# Altium schematic symbol library SPB_Transistors.SchLib: 13 symbols
Pins are listed as number, name and electrical type; pins without a type are passive.

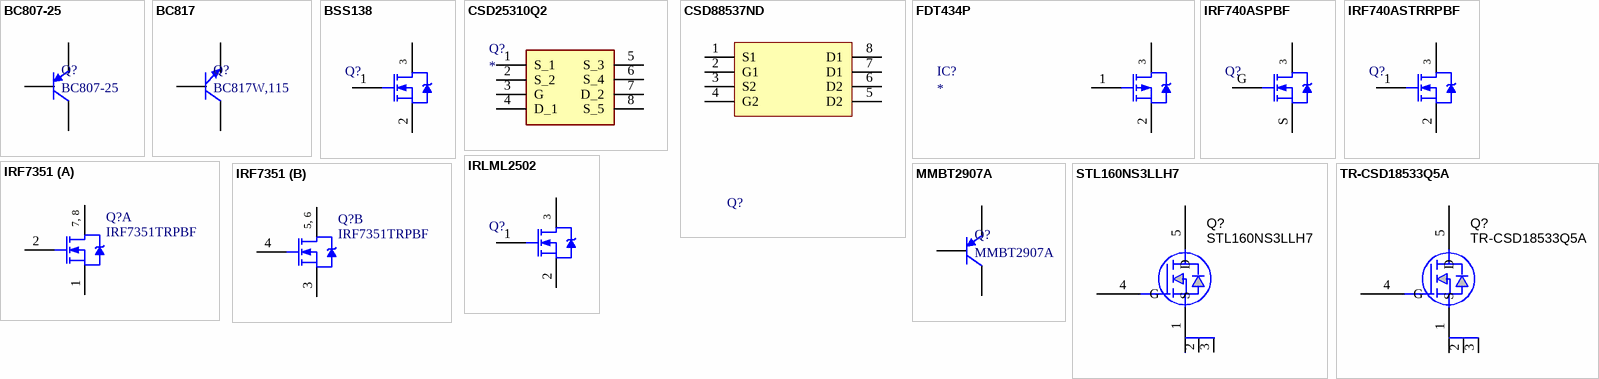
[diagram p0: symbols BC807-25 to TR-CSD18533Q5A]

## BC807-25
designator Q?
Bipolar Transistors - BJT PNP45V 500mA Surface Mount SOT-23-3; Manufacturer Part Number: BC807-25; Mouser Part #: 771-BC807-25-T/R
footprint SOT23_M (SOT23, 3-Leads, Body 2.9x1.3mm, Pitch 0.95mm, Lead Span 2.3mm - Reverse Pinning, IPC Low Density)
pins: 1 B, 2 E, 3 C

## BC817
designator Q?, comment BC817W,115
Bipolar Transistors - BJT TRANS GP TAPE-7 Surface Mount SOT-23-3; Manufacturer Part Number: BC817W,115; Mouser Part #: 771-BC817W115
footprint SOT23_M (SOT23, 3-Leads, Body 2.9x1.3mm, Pitch 0.95mm, Lead Span 2.3mm - Reverse Pinning, IPC Low Density)
pins: 1 B, 2 E, 3 C

## BSS138
designator Q?  (value not drawn)
MOSFET SOT-23 N-CH LOGIC; Manufacturer Part Number: BSS138; Digi-Key Part Number: BSS138CT-ND; Mouser Part Number: 512-BSS138
footprint SOT23_M (SOT23, 3-Leads, Body 2.9x1.3mm, Pitch 0.95mm, Lead Span 2.3mm - Reverse Pinning, IPC Low Density)
pins: 1 G, 2 S, 3 D

## CSD25310Q2
designator Q?
MOSFET (P-Channel); Manufacturer_Part_Number: CSD25310Q2; Supplier Part Number 2: 595-CSD25310Q2; Supplier 2: Mouser; Mouser part #: 595-CSD25310Q2; Supplier 1: Digi-Key; Supplier Part Number 1: 296-38915-1-ND
footprint CSD17313Q2
pins: 1 S_1, 2 S_2, 3 G, 4 D_1, 5 S_3, 6 S_4, 7 D_2, 8 S_5

## CSD88537ND
designator Q?  (value not drawn)
MOSFET 60-V Dual N-Channel Power MOSFET; Manufacturer Part Number: CSD88537ND; Mouser Part Number: 595-CSD88537ND
footprint SO8_M (SOIC, 8-Leads, Body 4.9x3.9mm, Pitch 1.27mm, IPC Low Density)
pins: 1 S1, 2 G1, 3 S2, 4 G2, 5 D2, 6 D2, 7 D1, 8 D1

## FDT434P
designator IC?
Integrated Circuit; Manufacturer_Name: Fairchild Semiconductor; Manufacturer_Part_Number: FDT434P; Datasheet Link: https://www.fairchildsemi.com/datasheets/FD/FDT434P.pdf; Height: 1.8mm; Mouser Part Number: 512-FDT434P; Mouser Price/Stock: https://www.mouser.com/Search/Refine.aspx?Keyword=512-FDT434P
footprint SOT230P700X180-4N
pins: 1 G, 2 S, 3 S

## IRF740ASPBF
designator Q?, comment IRLML2502  (value not drawn)
MOSFET N-Chan 400V 10 Amp; Manufacturer Part Number: IRF740ASPBF; Mouser Part Number: 844-IRF740ASPBF
footprint TO-263(D2PACK) (DPAK, SMT package)
pins: D, G, S
text: 3

## IRF740ASTRRPBF
designator Q?  (value not drawn)
MOSFET MOSFET N-CHANNEL 400V; Manufacturer Part Number: IRF740ASTRRPBF; Mouser Part Number: 844-IRF740ASTRRPBF
footprint TO228-DPACK
pins: 1 G, 2 S, 3 D

## IRF7351
designator Q?, comment IRF7351TRPBF
Mosfet Array 2 N-Channel (Dual) 60V 8A 2W Surface Mount 8-SO; Mouser Part #: 942-IRF7351TRPBF; Digi-Key Part Number: IRF7351TRPBFCT-ND; Manufacturer Part Number: IRF7351TRPBF
footprint SO8_L (SOIC, 8-Leads, Body 4.9x3.9mm, Pitch 1.27mm, IPC High Density)
footprint SO8_M (SOIC, 8-Leads, Body 4.9x3.9mm, Pitch 1.27mm, IPC Low Density)
footprint SO8_N (SOIC, 8-Leads, Body 4.9x3.9mm, Pitch 1.27mm, IPC Medium Density)
part A pins: 1 S, 2 G, 7 D, 8 D
part B pins: 3 S, 4 G, 5 D, 6 D
part A text: 7, 8
part B text: 5, 6

## IRLML2502
designator Q?  (value not drawn)
Manufacturer Part Number: IRLML2502TRPBF; Digi-Key Part Number: IRLML2502PBFCT-ND; Mouser Part Number: 942-IRLML2502TRPBF
footprint SOT-23B_L (SOT23, 3-Leads, Body 2.9x1.3mm, Pitch 0.95mm, Lead Span 2.4mm, IPC High Density)
pins: 1 G, 2 S, 3 D

## MMBT2907A
designator Q?
Bipolar (BJT) Transistor PNP 60V 600mA 200MHz 300mW Surface Mount SOT-23-3 (TO-236); Manufacturer Part Number: MMBT2907A; Digi-Key Part Number: MMBT2907ALT1GOSCT-ND; Mouser Part #: 512-MMBT2907A
footprint SOT23_L (SOT23, 3-Leads, Body 2.9x1.3mm, Pitch 0.95mm, Lead Span 2.3mm - Reverse Pinning, IPC High Density)
footprint SOT23_M (SOT23, 3-Leads, Body 2.9x1.3mm, Pitch 0.95mm, Lead Span 2.3mm - Reverse Pinning, IPC Low Density)
footprint SOT23_N (SOT23, 3-Leads, Body 2.9x1.3mm, Pitch 0.95mm, Lead Span 2.3mm - Reverse Pinning, IPC Medium Density)
pins: 1 C, 2 E, 3 B

## STL160NS3LLH7
designator Q?
N-channel 30 V, 0.0016 Ω typ., 160 A STripFET™ H7   Power MOSFET plus monolithic Schottky in a PowerFLAT™ 5x6; Manufacturer: ST; PartNumber: STL160NS3LLH7; PackageReference: 8-PowerVDFN; Mouser Part #: 511-STL160NS3LLH7; Digi-Key Part Number: 497-14988-1-ND
footprint PowerFLAT 5x6
pins: 1 S, 2, 3, 4 G, 5 D

## TR-CSD18533Q5A
designator Q?
MOSFET, N-Chan, 60V, 18A, 6.1 mOhm; Manufacturer: TI; PartNumber: CSD18533Q5A; PackageReference: QFN-8 POWER; Value: CSD18533Q5A; Mouser Part #: 595-CSD18533Q5A; Digi-Key Part Number: 296-35027-1-ND
footprint QFN5X6MM
pins: 1 S, 2, 3, 4 G, 5 D